# Altium footprint library 研发中心PCB库文件.PcbLib: 333 footprints (part 15 of 21)
Each footprint in its own frame and in the unit in brackets; x right, y up, seen from the top. Pads: shape width x height; smd on the part's side, far side on the other; paste and mask are expansions set on the pad; w line width, h text height; cw(c..) or ccw(c..) is an arc to the next point about the centre after c.
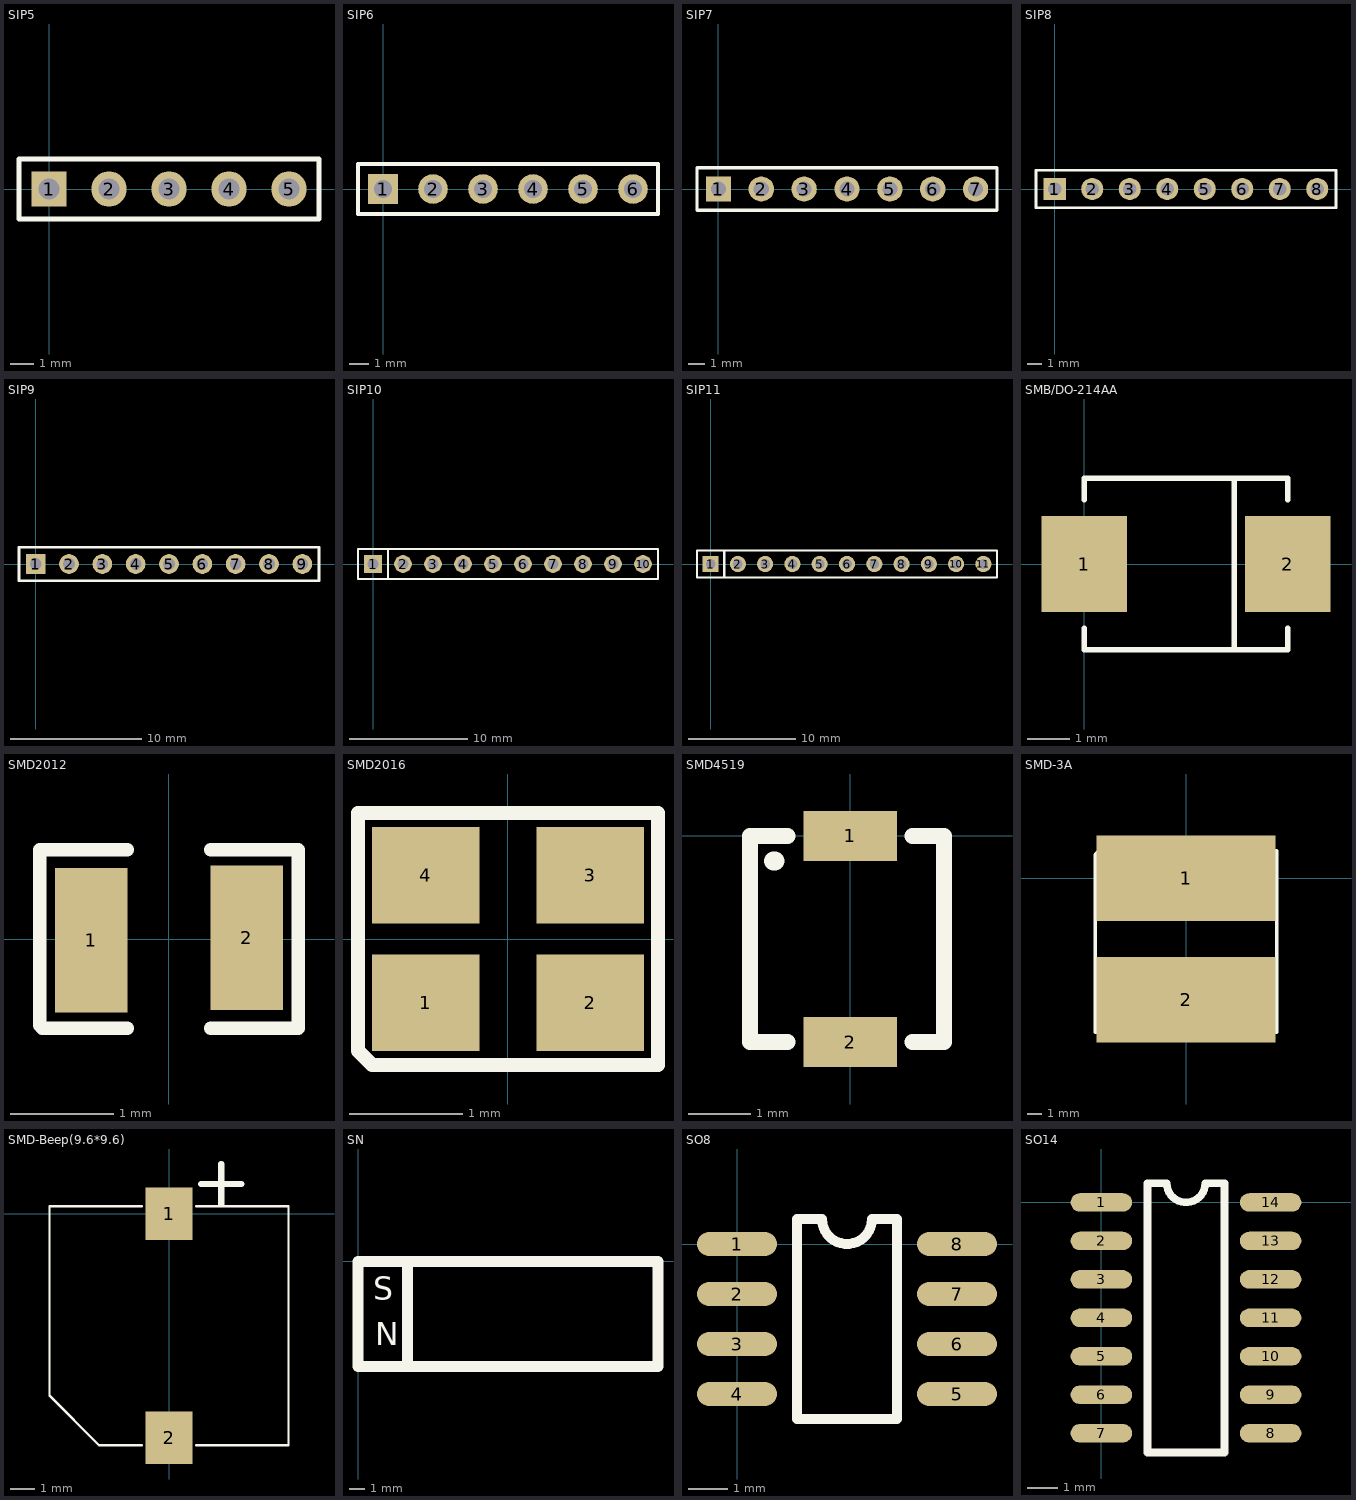
[diagram p14: the footprints below, top view; thin cyan lines are the x and y axes]

## SIP5 [mm]
pads (5):
  rect 1.5x1.5 hole 0.9: 1(0,0)
  round 1.5 hole 0.9: 2(2.54,0) 3(5.08,0) 4(7.62,0) 5(10.16,0)
Top Overlay:
  lines w0.2: -1.27,-1.27 -1.27,1.27 11.43,1.27 11.43,-1.27 -1.27,-1.27

## SIP6 [mm]
pads (6):
  rect 1.5x1.5 hole 0.9: 1(0,0)
  round 1.5 hole 0.9: 2(2.54,0) 3(5.08,0) 4(7.62,0) 5(10.16,0) 6(12.7,0)
Top Overlay:
  lines w0.2: -1.27,-1.27 -1.27,1.27 13.97,1.27 13.97,-1.27 -1.27,-1.27

## SIP7 [mm]
pads (7):
  rect 1.5x1.5 hole 0.9: 1(0,0)
  round 1.5 hole 0.9: 2(2.54,0) 3(5.08,0) 4(7.62,0) 5(10.16,0) 6(12.7,0) 7(15.24,0)
Top Overlay:
  lines w0.2: -1.27,-1.27 -1.27,1.27 16.51,1.27 16.51,-1.27 -1.27,-1.27

## SIP8 [mm]
pads (8):
  rect 1.5x1.5 hole 0.9: 1(0,0)
  round 1.5 hole 0.9: 2(2.54,0) 3(5.08,0) 4(7.62,0) 5(10.16,0) 6(12.7,0) 7(15.24,0) 8(17.78,0)
Top Overlay:
  lines w0.2: -1.27,-1.27 -1.27,1.27 19.05,1.27 19.05,-1.27 -1.27,-1.27

## SIP9 [mm]
pads (9):
  rect 1.5x1.5 hole 0.9: 1(0,0)
  round 1.5 hole 0.9: 2(2.54,0) 3(5.08,0) 4(7.62,0) 5(10.16,0) 6(12.7,0) 7(15.24,0) 8(17.78,0) 9(20.32,0)
Top Overlay:
  lines w0.2: -1.27,-1.27 -1.27,1.27 21.59,1.27 21.59,-1.27 -1.27,-1.27

## SIP10 [mm]
pads (10):
  rect 1.5x1.5 hole 0.9: 1(0,0)
  round 1.5 hole 0.9: 2(2.54,0) 3(5.08,0) 4(7.62,0) 5(10.16,0) 6(12.7,0) 7(15.24,0) 8(17.78,0) 9(20.32,0) 10(22.86,0)
Top Overlay:
  lines w0.203: 1.27,-1.27 1.27,1.27 ; -1.27,-1.27 24.13,-1.27 24.13,1.27 -1.27,1.27 -1.27,-1.27

## SIP11 [mm]
pads (11):
  rect 1.5x1.5 hole 0.9: 1(0,0)
  round 1.5 hole 0.9: 2(2.54,0) 3(5.08,0) 4(7.62,0) 5(10.16,0) 6(12.7,0) 7(15.24,0) 8(17.78,0) 9(20.32,0) 10(22.86,0) 11(25.4,0)
Top Overlay:
  lines w0.203: 1.27,-1.27 1.27,1.27 ; -1.27,-1.27 26.67,-1.27 26.67,1.27 -1.27,1.27 -1.27,-1.27

## SMB/DO-214AA [mil]
pads (2):
  rect 80x90 smd: 1(0,0) 2(190,0)
Top Overlay:
  lines w5: 0,-60 0,-80 190,-80 190,-60 ; 0,60 0,80 190,80 190,60 ; 140,-80 140,80

## SMD2012 [mm]
pads (2):
  rect 0.7x1.4 smd: 1(-0.75,-0.012) 2(0.75,0.013)
Top Overlay:
  lines w0.127: -1.25,-0.838 -1.25,0.838 ; -1.25,0.863 -0.4,0.863 ; -1.225,-0.863 -0.4,-0.863 ; 0.4,-0.863 1.25,-0.863 1.25,0.863 0.4,0.863

## SMD2016 [mm]
pads (4):
  rect 0.95x0.85 smd: 1(-0.725,-0.563) 2(0.725,-0.563) 3(0.725,0.563) 4(-0.725,0.563)
Top Overlay:
  lines w0.127: -1.325,-0.988 -1.325,1.112 1.325,1.112 1.325,-1.112 -1.2,-1.112 -1.325,-0.988

## SMD4519 [mm]
pads (2):
  rect 1.5x0.8 smd: 1(0,0) 2(0,-3.3)
Top Overlay:
  lines w0.254: -1,-3.3 -1.6,-3.3 -1.6,0 -1.1,0 -1,0 ; 1,-3.3 1.5,-3.3 1.5,0 1,0
  lines w0.305: -1.225,-0.4 -1.2,-0.4

## SMD-3A [mm]
pads (2):
  rect 12.5x6 smd: 1(0,0) 2(0,-8.5)
Top Overlay:
  lines w0.254: -6.35,-10.786 -6.35,1.66 -6.096,1.914 6.35,1.914 6.35,-10.786 -6.35,-10.786

## SMD-Beep(9.6*9.6) [mm]
pads (2):
  rect 1.9x2.1 smd: 1(0,0) 2(0,-9)
Top Overlay:
  lines w0.1: -1.1,-9.3 -2.8,-9.3 -4.8,-7.3 -4.8,0.3 -1.1,0.3 ; 1.1,-9.3 4.8,-9.3 4.8,0.3 1.1,0.3
  lines w0.254: 1.3,1.2 2.9,1.2 ; 2.1,0.4 2.1,2

## SN [mm]
Top Overlay:
  lines w0.762: 3.302,-7 3.302,0 ; 0,-7 0,0 20,0 20,-7 0,-7
  text "N" at 1.143,-5.588 h1.52
  text "S" at 1.016,-2.54 h1.52

## SO8 [mil]
pads (8):
  oval 80x24 smd: 1(0,0) 2(0,-50) 3(0,-100) 4(0,-150) 5(220,-150) 6(220,-100) 7(220,-50) 8(220,0)
Top Overlay:
  lines w10: 60,-175 60,25 85,25 ccw(c110,25) 135,25 160,25 160,-175 60,-175

## SO14 [mil]
pads (14):
  oval 80x24 smd: 1(0,0) 2(0,-50) 3(0,-100) 4(0,-150) 5(0,-200) 6(0,-250) 7(0,-300) 8(220,-300) 9(220,-250) 10(220,-200) 11(220,-150) 12(220,-100) 13(220,-50) 14(220,0)
Top Overlay:
  lines w10: 60,-325 60,25 85,25 ccw(c110,25) 135,25 160,25 160,-325 60,-325